# EAGLE library part PR36 (library bauteile_jbt)
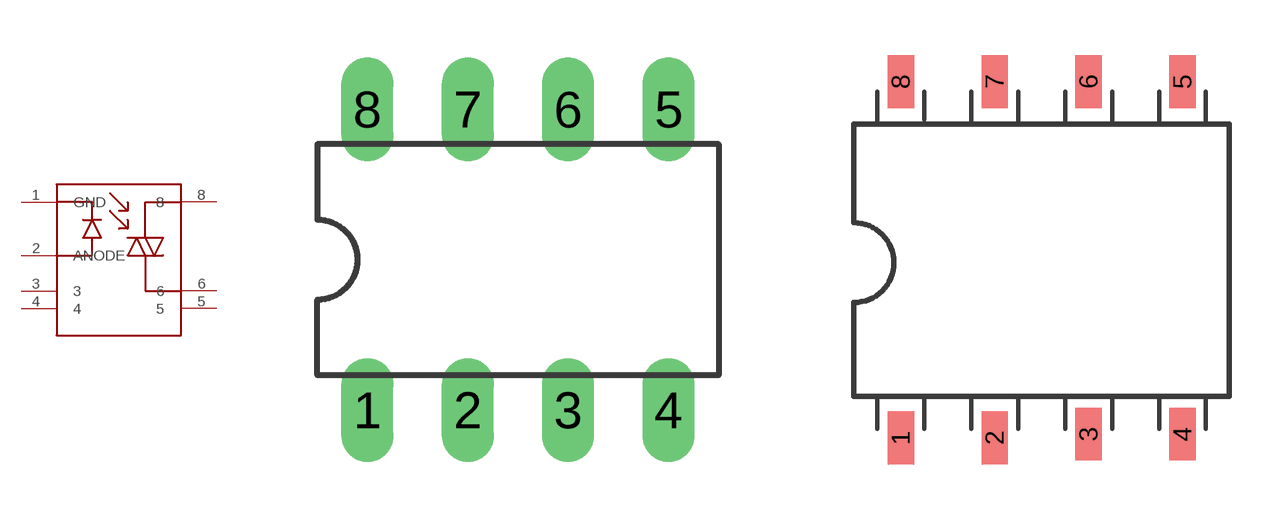
[diagram p0: symbol with the pads of DIL8; footprints DIL8, DIL8-SMD]

Designator prefix X

## PR36  [DIL8]
1  GND  pwr
2  ANODE  in
3  3  in
4  4  in
5  5
6  6
8  8  out

## PR36*SMD  [DIL8-SMD]
Pads as for DIL8

## PR36*SMD7PIN  [DIL8-SMD-NOPIN7]
Pads as for DIL8

## Footprint DIL8 (pad centres in mm)
drill 0.813 long: 1 -3.81,-3.81; 2 -1.27,-3.81; 3 1.27,-3.81; 4 3.81,-3.81; 5 3.81,3.81; 6 1.27,3.81; 7 -1.27,3.81; 8 -3.81,3.81

## Footprint DIL8-SMD (pad centres in mm)
SMD footprint for a DIL8 package
smd 0.711 x 1.422: 1 -3.81,-4.048; 2 -1.27,-4.048; 3 1.27,-3.948; 4 3.81,-3.948; 5 3.81,5.599; 6 1.27,5.599; 7 -1.27,5.599; 8 -3.81,5.599

## Footprint DIL8-SMD-NOPIN7 (pad centres in mm)
smd 0.711 x 1.422: 1 -3.81,-4.048; 2 -1.27,-4.048; 3 1.27,-3.948; 4 3.81,-3.948; 5 3.81,5.599; 6 1.27,5.599; 8 -3.81,5.599